# Altium footprint library DPAK228P991X238-3M.PcbLib: 1 footprints
Each footprint in its own frame and in the unit in brackets; x right, y up, seen from the top. Pads: shape width x height; smd on the part's side, far side on the other; paste and mask are expansions set on the pad; w line width, h text height; cw(c..) or ccw(c..) is an arc to the next point about the centre after c.
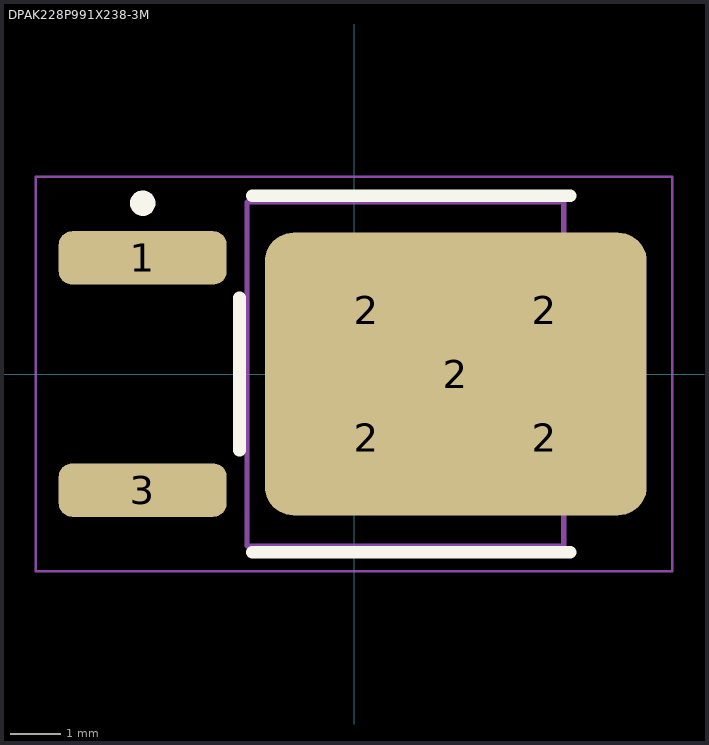
[diagram p0: the footprint, top view; thin cyan lines are the x and y axes]

## DPAK228P991X238-3M [mm] "D-PAK, 3-Pads, Body 6.21x6.73mm (max), IPC Low Density"
height 2.38
pads (7):
  rrect50% 3.3x1.05 smd: 1(-4.15,2.28) 3(-4.15,-2.28)
  rrect40% 2.5x2 on Top Paste: 2(0.25,-1.25) 2(0.25,1.25) 2(3.75,-1.25) 2(3.75,1.25)
  rrect20% 7.5x5.55 smd paste-100: 2(2,0)
Top Overlay:
  circle w0.25: c-4.15,3.355 r0.125
  lines w0.25: -2.25,-1.5 -2.25,-1.25 -2.25,1.5 ; -2,-3.5 4.25,-3.5 ; -2,3.5 4.25,3.5
  text ".Designator" at -4.496,4.512 h1.52
Top Assembly:
  lines w0.1: -2.1,-3.375 4.12,-3.375 4.12,3.375 -2.1,3.375 -2.1,-3.375
  text ".Comment" at -4.19,-5.215 h1
Top Courtyard:
  lines w0.05: -6.25,-3.875 -6.25,3.875 6.25,3.875 6.25,-3.875 -6.25,-3.875
  lines w0.1: -0.5,0 0.5,0 ; 0,-0.5 0,0.5
3D body "DPAK228P991X238-3M.step": height 2.38, standoff 0, extent -4.85,-3.375 5.055,3.375